# Altium schematic symbol library Schlib2.SchLib: 2 symbols
Pins are listed as number, name and electrical type; pins without a type are passive.

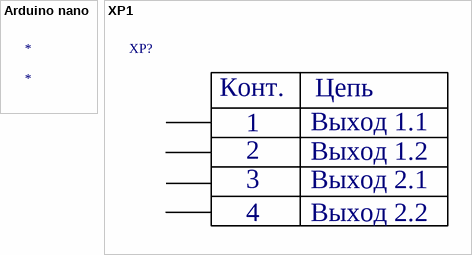
[diagram p0: symbols Arduino nano to XP1]

## Arduino nano
designator *

## XP1
designator XP?  (value not drawn)
pins: ?1, ?2, ?3, ?4
text: Конт.; Цепь; 1; Выход 1.1; 2; Выход 1.2; 3; Выход 2.1; 4; Выход 2.2